# Altium schematic symbol library Integrated Circuits.SchLib: 138 symbols (part 4 of 4)
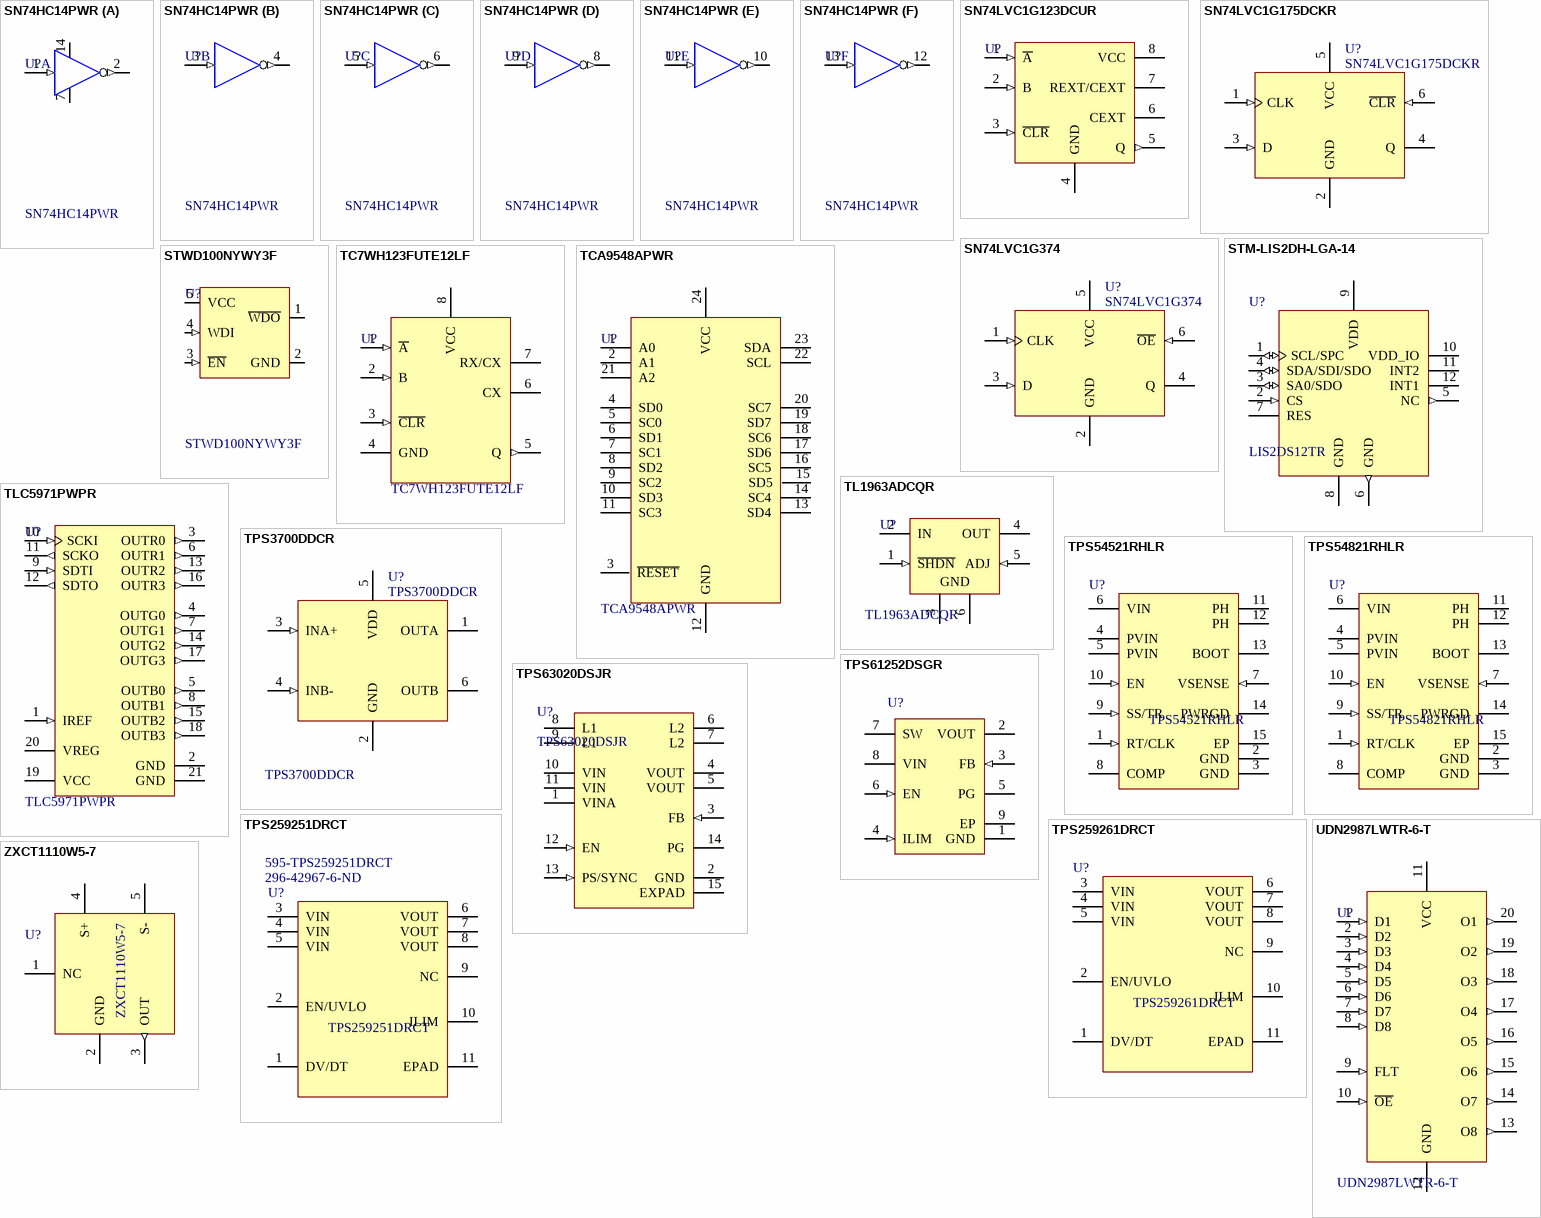
[diagram p9: symbols SN74HC14PWR to ZXCT1110W5-7]

## TPS54521RHLR
designator U?
IC, Vreg, Step-down, 4.5-17VIN, 5A; Manufacturer: Texas Instruments; PackageReference: RHL; PackageDescription: IC REG BLUCK ADJ 5A SYNC 14QFN; ComponentLink1Description: Supplier Link; ComponentLink1URL: http://www.digikey.com/product-detail/en/texas-instruments/TPS54521RHLR/296-27645-1-ND/2345433; ComponentLink2Description: Manufacturer Link; ComponentLink2URL: http://www.ti.com/lit/ds/symlink/tps54521.pdf; HelpURL: http://www.ti.com/lit/ds/symlink/tps54521.pdf; Part Number: TPS54521RHLR
footprint QFN-RHL0014A (QFN, 14-Leads, Body 3.5x3.5mm, Pitch 0.5mm, Thermal Pad 2.05x2.05mm, TI Recommended)
pins: 1 RT/CLK (in) "Automatically selects between RT mode and CLK mode. An external timing resistor adjusts the switching frequency of the device; In CLK mode, the device synchronizes to an external clock.", 2 GND (power) "Return for control circuitry and low-side power MOSFET.", 3 GND (power) "Return for control circuitry and low-side power MOSFET.", 4 PVIN (power) "Power input. Supplies the power switches of the power converter", 5 PVIN (power) "Power input. Supplies the power switches of the power converter", 6 VIN (power) "Supplies the control circuitry of the power converter.", 7 VSENSE (in) "Inverting input of the gm error amplifier", 8 COMP "Error amplifier output, and input to the output switch current comparator. Connect frequency compensation to this pin.", 9 SS/TR (in) "Slow-start and tracking. An external capacitor connected to this pin sets the internal voltage reference rise time. The voltage on this pin overrides the internal reference. It can be used for tracking and sequencing.", 10 EN (in) "Enable pin. Float to enable. Adjust the input undervoltage lockout with two resistors.", 11 PH (power) "The switch node", 12 PH (power) "The switch node", 13 BOOT "A bootstrap cap is required between BOOT and PH. The voltage on this cap carries the gate drive voltage for the high-side MOSFET", 14 PWRGD (oc) "Power Good fault pin. Asserts low if output voltage is low due to thermal shutdown, dropout, over-voltage, EN shutdown or during slow start", 15 EP (power) "Thermal pad of the package and signal ground and it must be soldered down for proper operation"

## TPS54821RHLR
designator U?
IC, Vreg, Step-down, 4.5-17VIN, 8A; Manufacturer: Texas Instruments; PackageReference: RHL; PackageDescription: 14-QFN exposed PAD; ComponentLink1Description: Supplier Link; ComponentLink1URL: http://www.digikey.com/product-detail/en/texas-instruments/TPS54821RHLR/296-29744-1-ND/2766652; ComponentLink2Description: Manufacturer Link; ComponentLink2URL: http://www.ti.com/lit/ds/symlink/tps54821.pdf; Part Number: TPS54821RHLR
footprint QFN-RHL0014A (QFN, 14-Leads, Body 3.5x3.5mm, Pitch 0.5mm, Thermal Pad 2.05x2.05mm, TI Recommended)
pins: 1 RT/CLK (in) "Automatically selects between RT mode and CLK mode. An external timing resistor adjusts the switching frequency of the device; In CLK mode, the device synchronizes to an external clock.", 2 GND (power) "Return for control circuitry and low-side power MOSFET.", 3 GND (power) "Return for control circuitry and low-side power MOSFET.", 4 PVIN (power) "Power input. Supplies the power switches of the power converter", 5 PVIN (power) "Power input. Supplies the power switches of the power converter", 6 VIN (power) "Supplies the control circuitry of the power converter.", 7 VSENSE (in) "Inverting input of the gm error amplifier", 8 COMP "Error amplifier output, and input to the output switch current comparator. Connect frequency compensation to this pin.", 9 SS/TR (in) "Slow-start and tracking. An external capacitor connected to this pin sets the internal voltage reference rise time. The voltage on this pin overrides the internal reference. It can be used for tracking and sequencing.", 10 EN (in) "Enable pin. Float to enable. Adjust the input undervoltage lockout with two resistors.", 11 PH (power) "The switch node", 12 PH (power) "The switch node", 13 BOOT "A bootstrap cap is required between BOOT and PH. The voltage on this cap carries the gate drive voltage for the high-side MOSFET", 14 PWRGD (oc) "Power Good fault pin. Asserts low if output voltage is low due to thermal shutdown, dropout, over-voltage, EN shutdown or during slow start", 15 EP (power) "Thermal pad of the package and signal ground and it must be soldered down for proper operation"

## TPS61252DSGR
designator U?
IC, Vreg, Boost, 2.3 to 6 V Input, 3 to 6.5 V Output,; Manufacturer: Texas Instruments; Part Number: TPS61252DSGR; Vin(Max)(V): 6; Vin(Min)(V): 2.3; Vout(Max)(V): 6.5; Vout(Min)(V): 3; PackageDescription: IC BOOST CONV ADJ 1.5A 8WSON; ComponentLink1Description: Supplier Link; HelpURL: http://www.ti.com/general/docs/lit/getliterature.tsp?genericPartNumber=TPS61252&fileType=pdf; ComponentLink2Description: Package Specification; ComponentLink2URL: http://www.ti.com/litv/pdf/mpds308a; ComponentLink1URL: https://www.digikey.com/product-detail/en/texas-instruments/TPS61252DSGT/296-27867-1-ND/2417395
footprint WSON_8_2X2 (SON, 8-Leads, Body 2x2mm, Pitch 0.5mm, Thermal Pad 1.6x0.9mm, TI Recommended)
pins: 1 GND (power) "Ground", 2 VOUT (power) "Boost converter output", 3 FB (in) "Voltage feedback pin", 4 ILIM (in) "Adjustable input valley current limit. Can be connected to VIN for maximum current.", 5 PG (oc) "Output power good (1 good, 0 failure; open drain)", 6 EN (in) "Enable input. (1 enabled, 0 disabled)", 7 SW (power) "Connection for Inductor", 8 VIN (power) "Supply voltage for power stage", 9 EP (power) "Must be soldered to achieve appropriate power dissipation and for mechanical reasons. Must be connected to GND."

## TPS63020DSJR
designator U?
IC, Vreg, Buck-Boost, 1.8 to 5.5 V Input, Adj V Output, 3.5A Switch; Manufacturer: Texas Instruments; PackageDescription: 14-VSON; Part Number: TPS63020DSJR; ComponentLink1Description: Supplier Link; HelpURL: http://www.ti.com/lit/ds/symlink/tps63021.pdf; ComponentLink1URL: https://www.digikey.com/product-detail/en/texas-instruments/TPS63020DSJR/296-36491-1-ND/4305306
footprint VSON14_4x2_0.5 (SON, 14-Leads, Body 4.15x3.15mm, Pitch 0.5mm)
pins: 1 VINA (power) "Supply voltage for control stage", 2 GND (power) "Control / logic ground", 3 FB (in) "Voltage feedback of adjustable versions, must be connected to VOUT on fixed output voltage versions", 4 VOUT (power) "Buck-boost converter output", 5 VOUT (power) "Buck-boost converter output", 6 L2 "Connection for Inductor", 7 L2 "Connection for Inductor", 8 L1 "Connection for Inductor", 9 L1 "Connection for Inductor", 10 VIN (power) "Supply voltage for power stage", 11 VIN (power) "Supply voltage for power stage", 12 EN (in) "Enable input (1 enabled, 0 disabled) , must not be left open", 13 PS/SYNC (in) "Enable / disable power save mode (1 disabled, 0 enabled, clock signal for synchronization), must not be left open", 14 PG (oc) "Output power good (1 good, 0 failure; open drain)", 15 EXPAD (power) "Must be connected to PGND. Must be soldered to achieve appropriate power dissipation."

## TPS259251DRCT
designator U?  Supplier Part Number 1: 296-42967-6-ND  Supplier Part Number 2: 595-TPS259251DRCT
IC, EFuse, 5V, Up to 5A, Auto Retry, 10VSON; Manufacturer: Texas Instruments; PackageReference: 10-VSON (3x3); PackageDescription: 10-VSON-EXPAD; ComponentLink1Description: Supplier; ComponentLink1URL: https://www.digikey.com/product-detail/en/texas-instruments/TPS259251DRCT/296-42967-1-ND/5514242; HelpURL: http://www.ti.com/lit/ds/symlink/tps25925.pdf; Part Number: TPS259251DRCT; Supplier 1: Digi-Key; Supplier 2: Mouser
footprint VSON10_3x3_0.5 (DFN, 10-leads, Body 3x3mm, Pitch 0.5mm)
pins: 1 DV/DT, 2 EN/UVLO, 3 VIN (power), 4 VIN (power), 5 VIN (power), 6 VOUT (power), 7 VOUT (power), 8 VOUT (power), 9 NC, 10 ILIM, 11 EPAD

## TPS259261DRCT
designator U?
IC, EFuse, 12V, Up to 5A, Auto Retry, 10VSON; Manufacturer: Texas Instruments; PackageReference: 10-VSON (3x3); PackageDescription: 10-VSON-EXPAD; ComponentLink1Description: Supplier; ComponentLink1URL: https://www.digikey.com/product-detail/en/texas-instruments/TPS259261DRCT/296-42969-1-ND/5514244; HelpURL: http://www.ti.com/lit/ds/symlink/tps25925.pdf; Part Number: TPS259261DRCT
footprint VSON10_3x3_0.5 (DFN, 10-leads, Body 3x3mm, Pitch 0.5mm)
pins: 1 DV/DT, 2 EN/UVLO, 3 VIN (power), 4 VIN (power), 5 VIN (power), 6 VOUT (power), 7 VOUT (power), 8 VOUT (power), 9 NC, 10 ILIM, 11 EPAD

## UDN2987LWTR-6-T
designator U?
IC, Driver, 8-CH, 350mA, 4.25-35V; Manufacturer: Allegro Microsystems; PackageReference: LW; PackageDescription: IC SOURCE DRIVER 8CH 20SOIC; ComponentLink1Description: Supplier Link; ComponentLink1URL: http://www.digikey.com/product-detail/en/allegro-microsystems-llc/UDN2987LWTR-6-T/620-1315-1-ND/2000046; HelpURL: https://www.dropbox.com/home/Altium%20Vault/Downloaded%20Datasheets?preview=UDN2987-6-Datasheet.pdf; Part Number: UDN2987LWTR-6-T
footprint Model Name (Footprint not found)
footprint SOIC-20_M (SOIC, 20-Leads, Body 12.8x7.5mm, Pitch 1.27mm, IPC Low Density)
pins: 1 D1 (in), 2 D2 (in), 3 D3 (in), 4 D4 (in), 5 D5 (in), 6 D6 (in), 7 D7 (in), 8 D8 (in), 9 FLT (in), 10 ~{OE} (in), 11 VCC, 12 GND, 13 O8 (out), 14 O7 (out), 15 O6 (out), 16 O5 (out), 17 O4 (out), 18 O3 (out), 19 O2 (out), 20 O1 (out)

## ZXCT1110W5-7
designator U?  Part Number: ZXCT1110W5-7
IC, CurrentMonitor, High side SOT-25; Manufacturer: Diodes Incorporated; PackageDescription: 25-SOT; PackageReference: SOT; ComponentLink1URL: http://www.digikey.com/product-detail/en/diodes-incorporated/ZXCT1110W5-7/ZXCT1110W5-7DITR-ND/3678144; ComponentLink1Description: Supplier Link; HelpURL: https://www.diodes.com/assets/Datasheets/ZXCT1107_10.pdf; SOTPackage: https://www.diodes.com/assets/Package-Files/SOT25.pdf
footprint SOT-25 (SOT23, 5-Leads, Body 3x1.6mm, Pitch 0.95mm, IPC Medium Density)
pins: 1 NC, 2 GND, 3 OUT (out), 4 S+, 5 S- (oc)